# EAGLE library part TX-BASEDRIVE-8P (library _mtvl.transformers)
TX-BASEDRIVE-8P
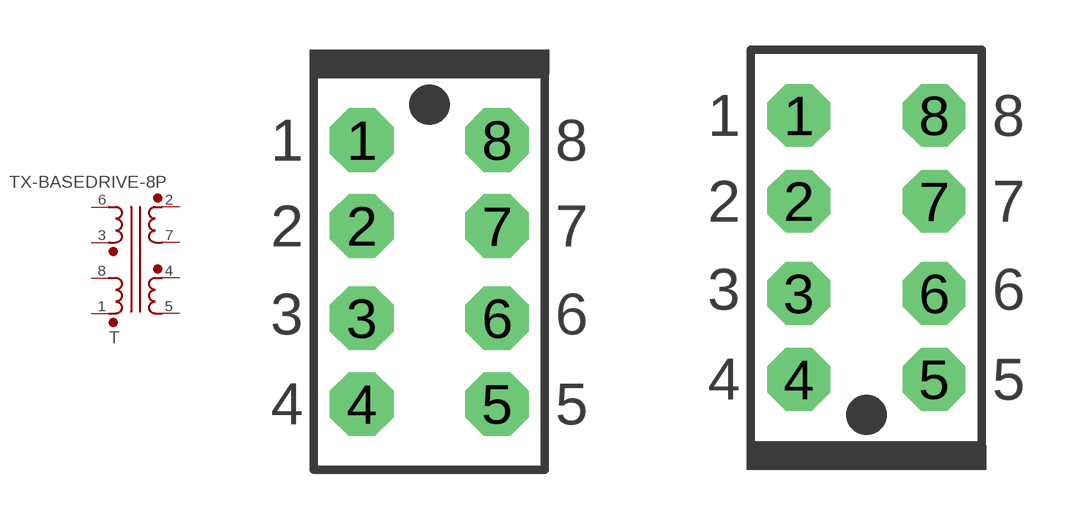
[diagram p1: symbol with the pads of BASE-7X12-(4+4)P; footprints BASE-7X12-(4+4)P, BASE-7X12-(4+4)P(REV)]

Designator prefix T

## TX-BASEDRIVE-8P-7X12  [BASE-7X12-(4+4)P]
1  1  pas
2  2  pas
3  3  pas
4  4  pas
5  5  pas
6  6  pas
7  7  pas
8  8  pas

## TX-BASEDRIVE-8P-7X12-REV  [BASE-7X12-(4+4)P(REV)]
Pads as for BASE-7X12-(4+4)P

## Footprint BASE-7X12-(4+4)P (pad centres in mm)
BASE-7X12-(4+4)P
drill 1.1 pad 1.93 octagon: 1 -2.05,4; 2 -2.05,1.4; 3 -2.05,-1.4; 4 -2.05,-4; 5 2.05,-4; 6 2.05,-1.4; 7 2.05,1.4; 8 2.05,4

## Footprint BASE-7X12-(4+4)P(REV) (pad centres in mm)
BASE-7X12-(4+4)P (reversed pins)
drill 1.1 pad 1.9 octagon: 1 -2.05,4; 2 -2.05,1.4; 3 -2.05,-1.4; 4 -2.05,-4; 5 2.05,-4; 6 2.05,-1.4; 7 2.05,1.4; 8 2.05,4